# Altium footprint library STM32L412KBT6.PcbLib: 3 footprints
Each footprint in its own frame and in the unit in brackets; x right, y up, seen from the top. Pads: shape width x height; smd on the part's side, far side on the other; paste and mask are expansions set on the pad; w line width, h text height; cw(c..) or ccw(c..) is an arc to the next point about the centre after c.
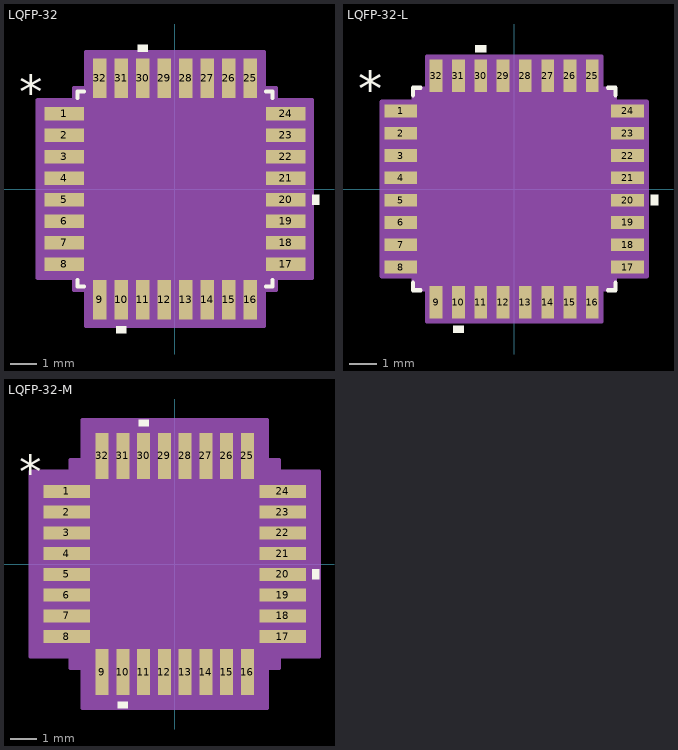
[diagram p0: the footprints below, top view; thin cyan lines are the x and y axes]

## LQFP-32 [mil]
pads (32):
  rect 58x20 smd paste+0 mask+0: 1(-162,110.24) 2(-162,78.74) 3(-162,47.24) 4(-162,15.75) 5(-162,-15.75) 6(-162,-47.24) 7(-162,-78.74) 8(-162,-110.24) 17(162,-110.24) 18(162,-78.74) 19(162,-47.24) 20(162,-15.75) 21(162,15.75) 22(162,47.24) 23(162,78.74) 24(162,110.24)
  rect 20x58 smd paste+0 mask+0: 9(-110.24,-162) 10(-78.74,-162) 11(-47.24,-162) 12(-15.75,-162) 13(15.75,-162) 14(47.24,-162) 15(78.74,-162) 16(110.24,-162) 25(110.24,162) 26(78.74,162) 27(47.24,162) 28(15.75,162) 29(-15.75,162) 30(-47.24,162) 31(-78.74,162) 32(-110.24,162)
Top Overlay:
  region: -71.24,-201 -86.24,-201 -86.24,-211 -71.24,-211
  region: 201,-8.25 211,-8.25 211,-23.25 201,-23.25
  region: -39.74,201 -54.74,201 -54.74,211 -39.74,211
  lines w6: -143,-133.34 -143,-143 -133.34,-143 ; -143,133.34 -143,143 -133.34,143 ; 133.34,-143 143,-143 143,-133.34 ; 133.34,143 143,143 143,133.34
  text "*" at -228.5,115.98 h50
Mechanical 13:
  lines w1: -138,88 -88,138 ; -138,-138 138,-138 ; -138,-138 -138,138 ; -138,-138 -138,-138 ; -138,138 138,138 ; -138,138 -138,138 ; 138,-138 138,-138 ; 138,-138 138,138 ; 138,138 138,138 ; -177,-119.24 -177,-101.24 -138,-101.24 -138,-119.24 -177,-119.24 ; -177,-87.74 -177,-69.74 -138,-69.74 -138,-87.74 -177,-87.74 ; -177,-56.24 -177,-38.24 -138,-38.24 -138,-56.24 -177,-56.24 ; -177,-24.75 -177,-6.75 -138,-6.75 -138,-24.75 -177,-24.75 ; -177,6.75 -177,24.75 -138,24.75 -138,6.75 -177,6.75 ; -177,38.24 -177,56.24 -138,56.24 -138,38.24 -177,38.24 ; -177,69.74 -177,87.74 -138,87.74 -138,69.74 -177,69.74 ; -177,101.24 -177,119.24 -138,119.24 -138,101.24 -177,101.24 ; -119.24,-177 -119.24,-138 -101.24,-138 -101.24,-177 -119.24,-177 ; -119.24,138 -101.24,138 -101.24,177 -119.24,177 -119.24,138 ; -87.74,-177 -87.74,-138 -69.74,-138 -69.74,-177 -87.74,-177 ; -87.74,138 -69.74,138 -69.74,177 -87.74,177 -87.74,138 ; -56.24,-177 -56.24,-138 -38.24,-138 -38.24,-177 -56.24,-177 ; -56.24,138 -38.24,138 -38.24,177 -56.24,177 -56.24,138 ; -24.75,-177 -24.75,-138 -6.75,-138 -6.75,-177 -24.75,-177 ; -24.75,138 -6.75,138 -6.75,177 -24.75,177 -24.75,138 ; 6.75,-177 6.75,-138 24.75,-138 24.75,-177 6.75,-177 ; 6.75,138 24.75,138 24.75,177 6.75,177 6.75,138 ; 38.24,-177 38.24,-138 56.24,-138 56.24,-177 38.24,-177 ; 38.24,138 56.24,138 56.24,177 38.24,177 38.24,138 ; 69.74,-177 69.74,-138 87.74,-138 87.74,-177 69.74,-177 ; 69.74,138 87.74,138 87.74,177 69.74,177 69.74,138 ; 101.24,-177 101.24,-138 119.24,-138 119.24,-177 101.24,-177 ; 101.24,138 119.24,138 119.24,177 101.24,177 101.24,138 ; 138,-119.24 138,-101.24 177,-101.24 177,-119.24 138,-119.24 ; 138,-87.74 138,-69.74 177,-69.74 177,-87.74 138,-87.74 ; 138,-56.24 138,-38.24 177,-38.24 177,-56.24 138,-56.24 ; 138,-24.75 138,-6.75 177,-6.75 177,-24.75 138,-24.75 ; 138,6.75 138,24.75 177,24.75 177,6.75 138,6.75 ; 138,38.24 138,56.24 177,56.24 177,38.24 138,38.24 ; 138,69.74 138,87.74 177,87.74 177,69.74 138,69.74 ; 138,101.24 138,119.24 177,119.24 177,101.24 138,101.24
  text "*" at -135.5,100.98 h50
Mechanical 15:
  region: -130.24,-148 -148,-148 -148,-130.24 -201,-130.24 -201,130.24 -148,130.24 -148,148 -130.24,148 -130.24,201 130.24,201 130.24,148 148,148 148,130.24 201,130.24 201,-130.24 148,-130.24 148,-148 130.24,-148 130.24,-201 -130.24,-201
  lines w6: -201,-130.24 -148,-130.24 -148,-148 -130.24,-148 -130.24,-201 130.24,-201 130.24,-148 148,-148 148,-130.24 201,-130.24 201,130.24 148,130.24 148,148 130.24,148 130.24,201 -130.24,201 -130.24,148 -148,148 -148,130.24 -201,130.24 -201,-130.24
3D body "LQFP-32.step": height 63.11, standoff 0, extent -177.01,-177.01 177.01,177.01

## LQFP-32-L [mil]
pads (32):
  rect 46x18 smd paste+0 mask+0: 1(-160,110.24) 2(-160,78.74) 3(-160,47.24) 4(-160,15.75) 5(-160,-15.75) 6(-160,-47.24) 7(-160,-78.74) 8(-160,-110.24) 17(160,-110.24) 18(160,-78.74) 19(160,-47.24) 20(160,-15.75) 21(160,15.75) 22(160,47.24) 23(160,78.74) 24(160,110.24)
  rect 18x46 smd paste+0 mask+0: 9(-110.24,-160) 10(-78.74,-160) 11(-47.24,-160) 12(-15.75,-160) 13(15.75,-160) 14(47.24,-160) 15(78.74,-160) 16(110.24,-160) 25(110.24,160) 26(78.74,160) 27(47.24,160) 28(15.75,160) 29(-15.75,160) 30(-47.24,160) 31(-78.74,160) 32(-110.24,160)
Top Overlay:
  region: -71.24,-193 -86.24,-193 -86.24,-203 -71.24,-203
  region: 193,-8.25 203,-8.25 203,-23.25 193,-23.25
  region: -39.74,193 -54.74,193 -54.74,203 -39.74,203
  lines w6: -143,-132.34 -143,-143 -132.34,-143 ; -143,132.34 -143,143 -132.34,143 ; 132.34,-143 143,-143 143,-132.34 ; 132.34,143 143,143 143,132.34
  text "*" at -220.5,115.98 h50
Mechanical 13:
  lines w1: -138,88 -88,138 ; -177,-119.24 -177,-101.24 -138,-101.24 -138,-119.24 -177,-119.24 ; -177,-87.74 -177,-69.74 -138,-69.74 -138,-87.74 -177,-87.74 ; -177,-56.24 -177,-38.24 -138,-38.24 -138,-56.24 -177,-56.24 ; -177,-24.75 -177,-6.75 -138,-6.75 -138,-24.75 -177,-24.75 ; -177,6.75 -177,24.75 -138,24.75 -138,6.75 -177,6.75 ; -177,38.24 -177,56.24 -138,56.24 -138,38.24 -177,38.24 ; -177,69.74 -177,87.74 -138,87.74 -138,69.74 -177,69.74 ; -177,101.24 -177,119.24 -138,119.24 -138,101.24 -177,101.24 ; -138,-138 -138,138 138,138 138,-138 -138,-138 ; -119.24,-177 -119.24,-138 -101.24,-138 -101.24,-177 -119.24,-177 ; -119.24,138 -101.24,138 -101.24,177 -119.24,177 -119.24,138 ; -87.74,-177 -87.74,-138 -69.74,-138 -69.74,-177 -87.74,-177 ; -87.74,138 -69.74,138 -69.74,177 -87.74,177 -87.74,138 ; -56.24,-177 -56.24,-138 -38.24,-138 -38.24,-177 -56.24,-177 ; -56.24,138 -38.24,138 -38.24,177 -56.24,177 -56.24,138 ; -24.75,-177 -24.75,-138 -6.75,-138 -6.75,-177 -24.75,-177 ; -24.75,138 -6.75,138 -6.75,177 -24.75,177 -24.75,138 ; 6.75,-177 6.75,-138 24.75,-138 24.75,-177 6.75,-177 ; 6.75,138 24.75,138 24.75,177 6.75,177 6.75,138 ; 38.24,-177 38.24,-138 56.24,-138 56.24,-177 38.24,-177 ; 38.24,138 56.24,138 56.24,177 38.24,177 38.24,138 ; 69.74,-177 69.74,-138 87.74,-138 87.74,-177 69.74,-177 ; 69.74,138 87.74,138 87.74,177 69.74,177 69.74,138 ; 101.24,-177 101.24,-138 119.24,-138 119.24,-177 101.24,-177 ; 101.24,138 119.24,138 119.24,177 101.24,177 101.24,138 ; 138,-119.24 138,-101.24 177,-101.24 177,-119.24 138,-119.24 ; 138,-87.74 138,-69.74 177,-69.74 177,-87.74 138,-87.74 ; 138,-56.24 138,-38.24 177,-38.24 177,-56.24 138,-56.24 ; 138,-24.75 138,-6.75 177,-6.75 177,-24.75 138,-24.75 ; 138,6.75 138,24.75 177,24.75 177,6.75 138,6.75 ; 138,38.24 138,56.24 177,56.24 177,38.24 138,38.24 ; 138,69.74 138,87.74 177,87.74 177,69.74 138,69.74 ; 138,101.24 138,119.24 177,119.24 177,101.24 138,101.24
  text "*" at -135.5,100.98 h50
Mechanical 15:
  region: -123.24,-142 -142,-142 -142,-123.24 -187,-123.24 -187,123.24 -142,123.24 -142,142 -123.24,142 -123.24,187 123.24,187 123.24,142 142,142 142,123.24 187,123.24 187,-123.24 142,-123.24 142,-142 123.24,-142 123.24,-187 -123.24,-187
  lines w6: -187,-123.24 -142,-123.24 -142,-142 -123.24,-142 -123.24,-187 123.24,-187 123.24,-142 142,-142 142,-123.24 187,-123.24 187,123.24 142,123.24 142,142 123.24,142 123.24,187 -123.24,187 -123.24,142 -142,142 -142,123.24 -187,123.24 -187,-123.24
3D body "LQFP-32.step": height 63.11, standoff 0, extent -177.01,-177.01 177.01,177.01

## LQFP-32-M [mil]
pads (32):
  rect 70x20 smd paste+0 mask+0: 1(-164,110.24) 2(-164,78.74) 3(-164,47.24) 4(-164,15.75) 5(-164,-15.75) 6(-164,-47.24) 7(-164,-78.74) 8(-164,-110.24) 17(164,-110.24) 18(164,-78.74) 19(164,-47.24) 20(164,-15.75) 21(164,15.75) 22(164,47.24) 23(164,78.74) 24(164,110.24)
  rect 20x70 smd paste+0 mask+0: 9(-110.24,-164) 10(-78.74,-164) 11(-47.24,-164) 12(-15.75,-164) 13(15.75,-164) 14(47.24,-164) 15(78.74,-164) 16(110.24,-164) 25(110.24,164) 26(78.74,164) 27(47.24,164) 28(15.75,164) 29(-15.75,164) 30(-47.24,164) 31(-78.74,164) 32(-110.24,164)
Top Overlay:
  region: -71.24,-209 -86.24,-209 -86.24,-219 -71.24,-219
  region: 209,-8.25 219,-8.25 219,-23.25 209,-23.25
  region: -39.74,209 -54.74,209 -54.74,219 -39.74,219
  text "*" at -236.5,115.98 h50
Mechanical 13:
  lines w1: -138,88 -88,138 ; -177,-119.24 -177,-101.24 -138,-101.24 -138,-119.24 -177,-119.24 ; -177,-87.74 -177,-69.74 -138,-69.74 -138,-87.74 -177,-87.74 ; -177,-56.24 -177,-38.24 -138,-38.24 -138,-56.24 -177,-56.24 ; -177,-24.75 -177,-6.75 -138,-6.75 -138,-24.75 -177,-24.75 ; -177,6.75 -177,24.75 -138,24.75 -138,6.75 -177,6.75 ; -177,38.24 -177,56.24 -138,56.24 -138,38.24 -177,38.24 ; -177,69.74 -177,87.74 -138,87.74 -138,69.74 -177,69.74 ; -177,101.24 -177,119.24 -138,119.24 -138,101.24 -177,101.24 ; -138,-138 -138,138 138,138 138,-138 -138,-138 ; -119.24,-177 -119.24,-138 -101.24,-138 -101.24,-177 -119.24,-177 ; -119.24,138 -101.24,138 -101.24,177 -119.24,177 -119.24,138 ; -87.74,-177 -87.74,-138 -69.74,-138 -69.74,-177 -87.74,-177 ; -87.74,138 -69.74,138 -69.74,177 -87.74,177 -87.74,138 ; -56.24,-177 -56.24,-138 -38.24,-138 -38.24,-177 -56.24,-177 ; -56.24,138 -38.24,138 -38.24,177 -56.24,177 -56.24,138 ; -24.75,-177 -24.75,-138 -6.75,-138 -6.75,-177 -24.75,-177 ; -24.75,138 -6.75,138 -6.75,177 -24.75,177 -24.75,138 ; 6.75,-177 6.75,-138 24.75,-138 24.75,-177 6.75,-177 ; 6.75,138 24.75,138 24.75,177 6.75,177 6.75,138 ; 38.24,-177 38.24,-138 56.24,-138 56.24,-177 38.24,-177 ; 38.24,138 56.24,138 56.24,177 38.24,177 38.24,138 ; 69.74,-177 69.74,-138 87.74,-138 87.74,-177 69.74,-177 ; 69.74,138 87.74,138 87.74,177 69.74,177 69.74,138 ; 101.24,-177 101.24,-138 119.24,-138 119.24,-177 101.24,-177 ; 101.24,138 119.24,138 119.24,177 101.24,177 101.24,138 ; 138,-119.24 138,-101.24 177,-101.24 177,-119.24 138,-119.24 ; 138,-87.74 138,-69.74 177,-69.74 177,-87.74 138,-87.74 ; 138,-56.24 138,-38.24 177,-38.24 177,-56.24 138,-56.24 ; 138,-24.75 138,-6.75 177,-6.75 177,-24.75 138,-24.75 ; 138,6.75 138,24.75 177,24.75 177,6.75 138,6.75 ; 138,38.24 138,56.24 177,56.24 177,38.24 138,38.24 ; 138,69.74 138,87.74 177,87.74 177,69.74 138,69.74 ; 138,101.24 138,119.24 177,119.24 177,101.24 138,101.24
  text "*" at -135.5,100.98 h50
Mechanical 15:
  region: -140.24,-158 -158,-158 -158,-140.24 -219,-140.24 -219,140.24 -158,140.24 -158,158 -140.24,158 -140.24,219 140.24,219 140.24,158 158,158 158,140.24 219,140.24 219,-140.24 158,-140.24 158,-158 140.24,-158 140.24,-219 -140.24,-219
  lines w6: -219,-140.24 -158,-140.24 -158,-158 -140.24,-158 -140.24,-219 140.24,-219 140.24,-158 158,-158 158,-140.24 219,-140.24 219,140.24 158,140.24 158,158 140.24,158 140.24,219 -140.24,219 -140.24,158 -158,158 -158,140.24 -219,140.24 -219,-140.24
3D body "LQFP-32.step": height 63.11, standoff 0, extent -177.01,-177.01 177.01,177.01